# Altium integrated library wiz820io.IntLib: 1 symbol
Pins are listed as number, name and electrical type; pins without a type are passive.

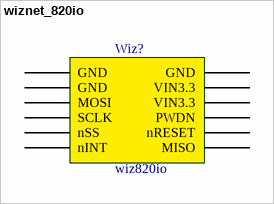
[diagram p0: symbol wiznet_820io]

## wiznet_820io
designator Wiz?, comment wiz820io
footprint wiz820io (wiz?)
pins: 1 GND, 2 GND, 3 MOSI, 4 SCLK, 5 nSS, 6 nINT, 7 MISO, 8 nRESET, 9 PWDN, 10 VIN3.3, 11 VIN3.3, 12 GND